# Altium schematic symbol library UL865.Schlib: 1 symbol
Pins are listed as number, name and electrical type; pins without a type are passive.

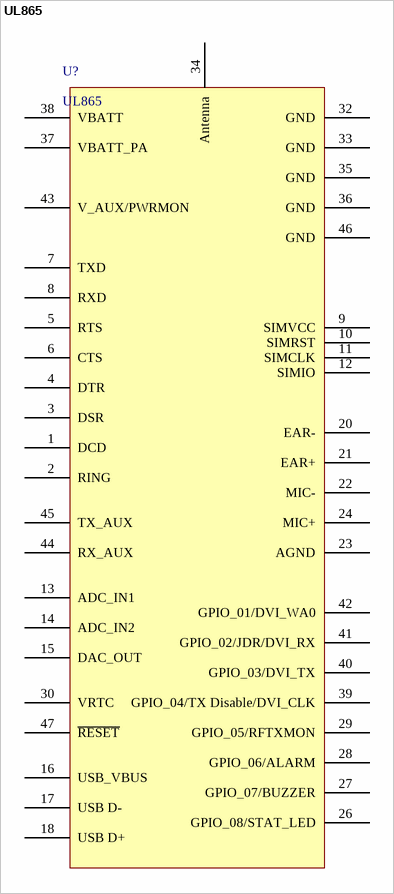
[diagram p0: symbol UL865]

## UL865
designator U?
pins: 1 DCD, 2 RING, 3 DSR, 4 DTR, 5 RTS, 6 CTS, 7 TXD, 8 RXD, 9 SIMVCC, 10 SIMRST, 11 SIMCLK, 12 SIMIO, 13 ADC_IN1, 14 ADC_IN2, 15 DAC_OUT, 16 USB_VBUS, 17 USB D-, 18 USB D+, 20 EAR-, 21 EAR+, 22 MIC-, 23 AGND, 24 MIC+, 26 GPIO_08/STAT_LED, 27 GPIO_07/BUZZER, 28 GPIO_06/ALARM, 29 GPIO_05/RFTXMON, 30 VRTC, 32 GND, 33 GND, 34 Antenna, 35 GND, 36 GND, 37 VBATT_PA, 38 VBATT, 39 GPIO_04/TX Disable/DVI_CLK, 40 GPIO_03/DVI_TX, 41 GPIO_02/JDR/DVI_RX, 42 GPIO_01/DVI_WA0, 43 V_AUX/PWRMON, 44 RX_AUX, 45 TX_AUX, 46 GND, 47 ~{RESET}